# Altium schematic symbol library BU01 UWB.SchLib: 2 symbols
Pins are listed as number, name and electrical type; pins without a type are passive.

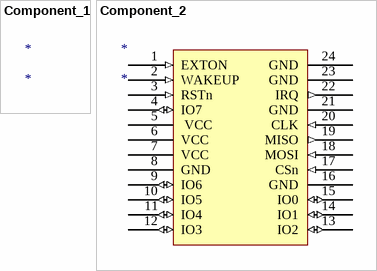
[diagram p0: symbols Component_1 to Component_2]

## Component_1
designator *

## Component_2
designator *
footprint BU01
pins: 1 EXTON (in), 2 WAKEUP (in), 3 RSTn (in), 4 IO7 (io), 5  VCC (power), 6 VCC (power), 7 VCC (power), 8 GND (power), 9 IO6 (io), 10 IO5 (io), 11 IO4 (io), 12 IO3 (io), 13 IO2 (io), 14 IO1 (io), 15 IO0 (io), 16 GND (power), 17 CSn (in), 18 MOSI (in), 19 MISO (out), 20 CLK (in), 21 GND (power), 22 IRQ (out), 23 GND (power), 24 GND (power)